# EAGLE library part MIC280 (library balto)
MIC280 Precision IttyBitty Thermal Supervisor
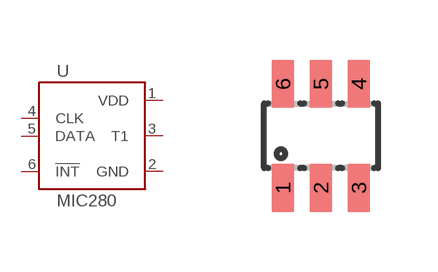
[diagram p40: symbol with the pads of SOT23-6L; footprint SOT23-6L]

Designator prefix U

## MIC280  [SOT23-6L]
1  VDD
2  GND
3  T1
4  CLK
5  DATA
6  !INT

## Footprint SOT23-6L (pad centres in mm)
Small Outline Transistor
smd 0.55 x 1.2: 1 -0.95,-1.3; 2 0,-1.3; 3 0.95,-1.3; 4 0.95,1.3; 5 0,1.3; 6 -0.95,1.3